# EAGLE library part PINHEAD-2X3 (library GClue)
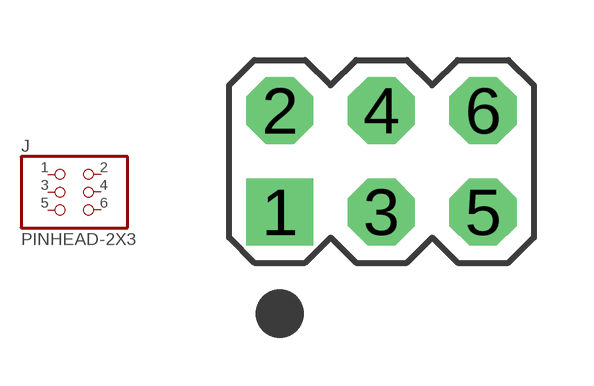
[diagram p21: symbol with the pads of 2X3; footprint 2X3]

Designator prefix J

## PINHEAD-2X3  [2X3]
1  1  pas
2  2  pas
3  3  pas
4  4  pas
5  5  pas
6  6  pas

## Footprint 2X3 (pad centres in mm)
drill 1 pad 1.676 square: 1 -2.54,-1.27
drill 1 pad 1.676 octagon: 2 -2.54,1.27; 3 0,-1.27; 4 0,1.27; 5 2.54,-1.27; 6 2.54,1.27